# Altium footprint library Footprints.PcbLib: 30 footprints (part 1 of 2)
Each footprint in its own frame and in the unit in brackets; x right, y up, seen from the top. Pads: shape width x height; smd on the part's side, far side on the other; paste and mask are expansions set on the pad; w line width, h text height; cw(c..) or ccw(c..) is an arc to the next point about the centre after c.
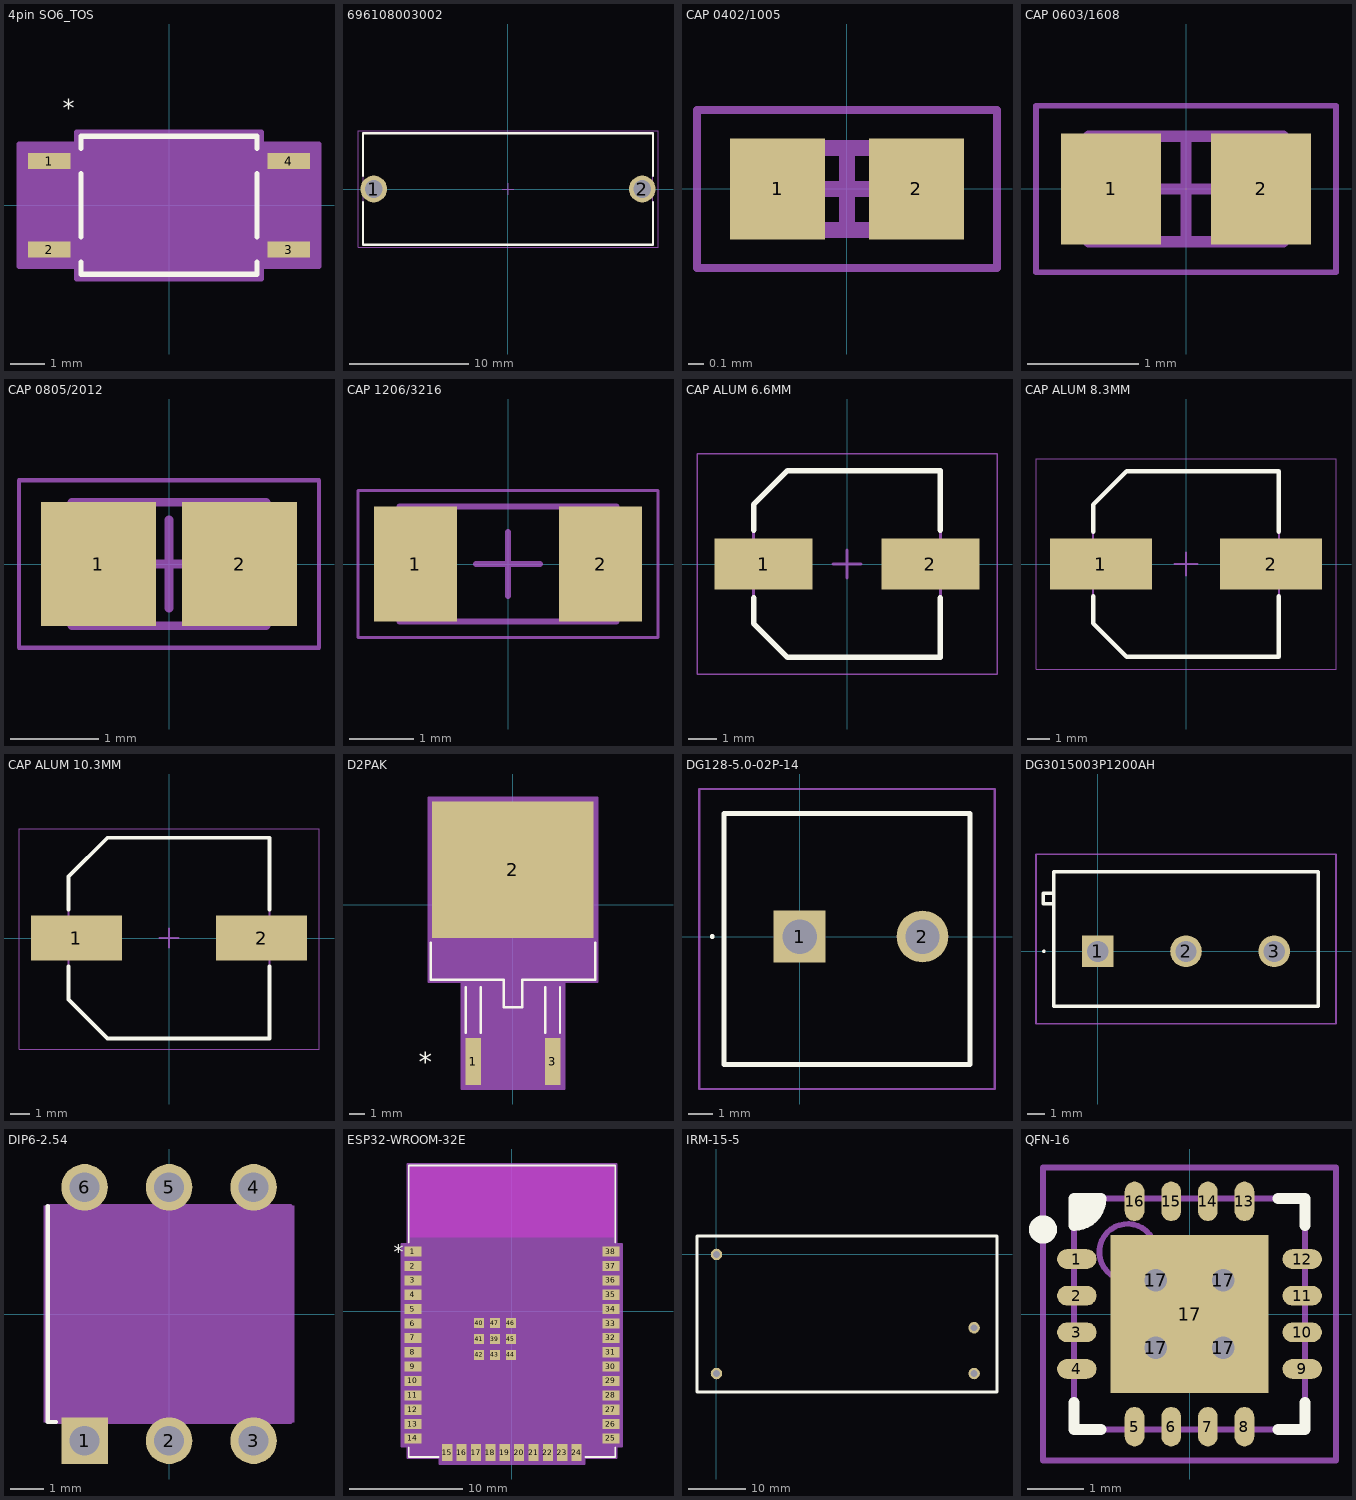
[diagram p0: the footprints below, top view; thin cyan lines are the x and y axes]

## 4pin SO6_TOS [mil]
pads (4):
  rect 48x18 smd paste+0 mask+0: 1(-135.5,50) 2(-135.5,-50) 3(135.5,-50) 4(135.5,50)
Top Overlay:
  lines w6: -99.5,-64.25 -99.5,-78 99.5,-78 99.5,-64.25 ; -99.5,-35.75 -99.5,35.75 ; -99.5,64.25 -99.5,78 99.5,78 99.5,64.25 ; 99.5,-35.75 99.5,35.75
  text "*" at -120,100 h20
Mechanical 13:
  lines w0: -12,73 ccw(c0,73) 12,73
  lines w1: -145.5,-58 -94.5,-58 -94.5,-42 -145.5,-42 -145.5,-58 ; -145.5,42 -94.5,42 -94.5,58 -145.5,58 -145.5,42 ; -94.5,-73 -94.5,73 94.5,73 94.5,-73 -94.5,-73 ; 94.5,-58 145.5,-58 145.5,-42 94.5,-42 94.5,-58 ; 94.5,42 145.5,42 145.5,58 94.5,58 94.5,42
Mechanical 15:
  region: -104.5,-69 -169.5,-69 -169.5,69 -104.5,69 -104.5,83 104.5,83 104.5,69 169.5,69 169.5,-69 104.5,-69 104.5,-83 -104.5,-83
  lines w6: -169.5,-69 -104.5,-69 -104.5,-83 104.5,-83 104.5,-69 169.5,-69 169.5,69 104.5,69 104.5,83 -104.5,83 -104.5,69 -169.5,69 -169.5,-69
3D body "4pinSO6_TOS.step": height 87.09, standoff 0, extent -145.51,-72.99 145.51,72.99

## 696108003002 [mm] "FUSEHOLDER BLOCKS - PCB - CLIP COVER - THT"
height 11.5
pads (2):
  round 2.25 hole 1.5: 1(-11.3,0) 2(11.3,0)
Top Overlay:
  lines w0.2: -12.2,-1.1 -12.2,-4.7 12.2,-4.7 12.2,-1.1 ; -12.2,1.1 -12.2,4.7 12.2,4.7 12.2,1.1
Top 3D Body:
  lines w0.1: -12.2,-4.7 12.2,-4.7 12.2,4.7 -12.2,4.7 -12.2,-4.7
Top Courtyard:
  lines w0.05: -0.5,0 0.5,0 ; 0,-0.5 0,0.5 ; -12.625,-4.9 12.625,-4.9 12.625,4.9 -12.625,4.9 -12.625,-4.9
Top Designator:
  text ".Designator" at -7.498,-0.5 h1.5
Top Component Outline:
  lines w0.1: -12.2,-4.7 -12.2,4.7 12.2,4.7 12.2,-4.7 -12.2,-4.7
3D body "696108003002 - PTF_78.stp": height 11.55, standoff -3.45, extent -12.2,-4.7 12.2,4.7

## CAP 0402/1005 [mm] "Chip Capacitor, 2-Leads, Body 1.02x0.51mm, IPC Medium Density"
height 0.52
pads (2):
  rect 0.6x0.64 smd: 1(-0.44,0) 2(0.44,0)
Mechanical 13:
  lines w0.1: -0.515,-0.26 -0.515,0.26 0.515,0.26 0.515,-0.26 -0.515,-0.26
Mechanical 15:
  lines w0.05: -0.95,-0.5 -0.95,0.5 0.95,0.5 0.95,-0.5 -0.95,-0.5
  lines w0.1: -0.26,0 0.26,0 ; 0,-0.26 0,0.26
3D body "0402 cap.STEP": height 0.52, standoff 0, extent -0.5,-0.262 0.5,0.262

## CAP 0603/1608 [mm] "Chip Capacitor, 2-Leads, Body 1.60x0.80mm, IPC Medium Density"
height 0.89
pads (2):
  rect 0.9x1 smd: 1(-0.675,0) 2(0.675,0)
Mechanical 13:
  lines w0.1: -0.875,-0.475 -0.875,0.475 0.875,0.475 0.875,-0.475 -0.875,-0.475
Mechanical 15:
  lines w0.05: -1.35,-0.75 -1.35,0.75 1.35,0.75 1.35,-0.75 -1.35,-0.75
  lines w0.1: -0.475,0 0.475,0 ; 0,-0.475 0,0.475
3D body "0603 cap.STEP": height 0.82, standoff 0, extent -0.8,-0.412 0.8,0.412

## CAP 0805/2012 [mm] "Chip Capacitor, 2-Leads, Body 2.00x1.20mm, IPC Medium Density"
height 1.15
pads (2):
  rect 1.3x1.4 smd: 1(-0.8,0) 2(0.8,0)
Mechanical 13:
  lines w0.1: -1.1,-0.7 -1.1,0.7 1.1,0.7 1.1,-0.7 -1.1,-0.7
Mechanical 15:
  lines w0.05: -1.7,-0.95 -1.7,0.95 1.7,0.95 1.7,-0.95 -1.7,-0.95
  lines w0.1: -0.5,0 0.5,0 ; 0,-0.5 0,0.5
3D body "0805 cap.STEP": height 1.26, standoff -0.02, extent -1,-0.637 1,0.637

## CAP 1206/3216 [mm] "Chip Capacitor, 2-Leads, Body 3.25x1.60mm, IPC Medium Density"
height 1.6
pads (2):
  rect 1.3x1.8 smd: 1(-1.45,0) 2(1.45,0)
Mechanical 13:
  lines w0.1: -1.7,-0.9 -1.7,0.9 1.7,0.9 1.7,-0.9 -1.7,-0.9
Mechanical 15:
  lines w0.05: -2.35,-1.15 -2.35,1.15 2.35,1.15 2.35,-1.15 -2.35,-1.15
  lines w0.1: -0.5,0 0.5,0 ; 0,-0.5 0,0.5
3D body "1206 cap.STEP": height 1.62, standoff 0, extent -1.6,-0.812 1.6,0.812

## CAP ALUM 6.6MM [mm] "Aluminum Electrolytic Capacitor, Body 6.60x6.60x7.70mm, IPC Low Density"
height 7.7
pads (2):
  rect 3.45x1.8 smd: 1(-2.95,0) 2(2.95,0)
Top Overlay:
  lines w0.2: -3.3,-1.2 -3.3,-2.1 -2.1,-3.3 3.3,-3.3 3.3,-1.2 ; -3.3,1.2 -3.3,2.1 -2.1,3.3 3.3,3.3 3.3,1.2
Mechanical 13:
  lines w0.1: -3.3,-2.1 -3.3,2.1 -2.1,3.3 3.3,3.3 3.3,-3.3 -2.1,-3.3 -3.3,-2.1
Mechanical 15:
  lines w0.05: -5.3,-3.9 5.3,-3.9 5.3,3.9 -5.3,3.9 -5.3,-3.9
  lines w0.1: -0.5,0 0.5,0 ; 0,-0.5 0,0.5
3D body "CAP ALUM 6_6mm.STEP": height 7.7, standoff 0, extent -3.5,-3.3 3.5,3.3

## CAP ALUM 8.3MM [mm] "Aluminum Electrolytic Capacitor, Body 8.30x8.30x10.50mm, IPC Low Density"
height 10.5
pads (2):
  rect 4.55x2.3 smd: 1(-3.8,0) 2(3.8,0)
Top Overlay:
  lines w0.2: -4.15,-1.45 -4.15,-2.65 -2.65,-4.15 4.15,-4.15 4.15,-1.45 ; -4.15,1.45 -4.15,2.65 -2.65,4.15 4.15,4.15 4.15,1.45
Mechanical 13:
  lines w0.1: -4.15,-2.65 -2.65,-4.15 4.15,-4.15 4.15,4.15 -2.65,4.15 -4.15,2.65 -4.15,-2.65
Mechanical 15:
  lines w0.05: -6.7,-4.7 -6.7,4.7 6.7,4.7 6.7,-4.7 -6.7,-4.7
  lines w0.1: -0.5,0 0.5,0 ; 0,-0.5 0,0.5
3D body "CAP ALUM 8_3mm.STEP": height 10.5, standoff 0, extent -4.95,-4.15 4.95,4.15

## CAP ALUM 10.3MM [mm] "Aluminum Electrolytic Capacitor, Body 10.30x10.30x10.50mm, IPC Low Density"
height 10.5
pads (2):
  rect 4.65x2.3 smd: 1(-4.75,0) 2(4.75,0)
Top Overlay:
  lines w0.2: -5.15,-1.45 -5.15,-3.15 -3.15,-5.15 5.15,-5.15 5.15,-1.45 ; -5.15,1.45 -5.15,3.15 -3.15,5.15 5.15,5.15 5.15,1.45
Mechanical 13:
  lines w0.1: -5.15,-3.15 -5.15,3.15 -3.15,5.15 5.15,5.15 5.15,-5.15 -3.15,-5.15 -5.15,-3.15
Mechanical 15:
  lines w0.05: -7.7,-5.7 7.7,-5.7 7.7,5.6 -7.7,5.6 -7.7,-5.7
  lines w0.1: -0.5,0 0.5,0 ; 0,-0.5 0,0.5
3D body "CAP ALUM 10_3mm.STEP": height 10.5, standoff 0, extent -5.8,-5.15 5.8,5.15

## D2PAK [mil]
pads (3):
  rect 39x118 smd paste+0 mask+0: 1(-100,-395) 3(100,-395)
  rect 407x343 smd paste+0 mask+0: 2(0,88.5)
Top Overlay:
  lines w6: -207.5,-95.47 -207.5,-189 -23.5,-189 -23.5,-258 23.5,-258 23.5,-189 207.5,-189 207.5,-95.47 ; -118.5,-322 -118.5,-208 ; -81.5,-322 -81.5,-208 ; 81.5,-322 81.5,-208 ; 118.5,-322 118.5,-208
  text "*" at -237.5,-420 h50
Mechanical 13:
  lines w1: -202.5,-184 202.5,-184 202.5,184 -202.5,184 -202.5,-184 ; -118.5,-440 -118.5,-184 -81.5,-184 -81.5,-440 -118.5,-440 ; -18.5,-253 -18.5,-184 18.5,-184 18.5,-253 -18.5,-253 ; 81.5,-440 81.5,-184 118.5,-184 118.5,-440 81.5,-440
  text "*" at -112.5,-199 h50
Mechanical 15:
  region: -212.5,-194 -212.5,194 -212.5,270 212.5,270 212.5,194 212.5,-194 129.5,-194 129.5,-464 -129.5,-464 -129.5,-194
  lines w6: -212.5,-194 -212.5,194 -212.5,270 212.5,270 212.5,194 212.5,-194 129.5,-194 129.5,-464 -129.5,-464 -129.5,-194 -212.5,-194
3D body "D2PAK_T2550_STM.step": height 181.1, standoff -2.01, extent -202.48,-440 202.48,239.02

## DG128-5.0-02P-14 [mm]
pads (2):
  rect 2.1x2.1 hole 1.4: 1(0,0)
  round 2.1 hole 1.4: 2(5,0)
Top Overlay:
  lines w0.1: -3.6,0 ccw(c-3.55,0) -3.5,0 ; -3.6,0 cw(c-3.55,0) -3.5,0 ; -3.6,0 ccw(c-3.55,0) -3.5,0
  lines w0.2: -3.07,-5.2 6.93,-5.2 6.93,5 -3.07,5 -3.07,-5.2
Mechanical 15:
  lines w0.1: -3.07,-5.2 -3.07,5 6.93,5 6.93,-5.2 -3.07,-5.2
Mechanical 20:
  lines w0.1: -4.07,-6.2 -4.07,6 7.93,6 7.93,-6.2 -4.07,-6.2
3D body "DG128-5.0-02P-14.stp": height 14.01, standoff -3.49, extent -2.54,-4.973 8.03,5.227

## DG3015003P1200AH [mm]
pads (3):
  rect 1.8x1.8 hole 1.2: 1(0,0)
  round 1.8 hole 1.2: 2(5,0) 3(10,0)
Top Overlay:
  lines w0.1: -3.1,0 ccw(c-3.05,0) -3,0 ccw(c-3.05,0) -3.1,0
  lines w0.2: -2.5,2.7 -3.1,2.7 -3.1,3.3 -2.5,3.3 ; -2.5,-3.1 12.5,-3.1 12.5,4.5 -2.5,4.5 -2.5,-3.1
Mechanical 15:
  lines w0.1: -2.5,-3.1 12.5,-3.1 12.5,4.5 -2.5,4.5 -2.5,-3.1
Mechanical 20:
  lines w0.1: -3.5,-4.1 13.5,-4.1 13.5,5.5 -3.5,5.5 -3.5,-4.1
3D body "DG128-5.0-03P-14-00A_H_.stp": height 14.01, standoff -3.49, extent -2.489,-4.973 13.081,5.227

## DIP6-2.54 [mm]
pads (6):
  rect 1.4x1.4 hole 0.9: 1(-2.54,-3.81)
  round 1.4 hole 0.9: 2(0,-3.81) 3(2.54,-3.81) 4(2.54,3.81) 5(0,3.81) 6(-2.54,3.81)
Top Overlay:
  lines w0.127: -3.65,3.25 -3.65,-3.25 -3.4,-3.25
Mechanical 13:
  lines w0.127: -3.65,-3.25 3.65,-3.25 ; -3.65,3.25 3.65,3.25
Mechanical 15:
  region: 3.76,-3.255 -3.766,-3.255 -3.766,3.25 3.76,3.25
3D body "4N35.STEP": height 3.81, standoff -3.94, extent -3.56,-4.405 3.56,4.405

## ESP32­WROOM­32E [mil]
pads (47):
  rect 59x35 smd paste+0 mask+0: 1(-344.5,207.1) 2(-344.5,157.1) 3(-344.5,107.1) 4(-344.5,57.1) 5(-344.5,7.1) 6(-344.5,-42.9) 7(-344.5,-92.9) 8(-344.5,-142.9) 9(-344.5,-192.9) 10(-344.5,-242.9) 11(-344.5,-292.9) 12(-344.5,-342.9) 13(-344.5,-392.9) 14(-344.5,-442.9) 25(344.5,-442.9) 26(344.5,-392.9) 27(344.5,-342.9) 28(344.5,-292.9) 29(344.5,-242.9) 30(344.5,-192.9) 31(344.5,-142.9) 32(344.5,-92.9) 33(344.5,-42.9) 34(344.5,7.1) 35(344.5,57.1) 36(344.5,107.1) 37(344.5,157.1) 38(344.5,207.1)
  rect 35x59 smd paste+0 mask+0: 15(-225,-492.15) 16(-175,-492.15) 17(-125,-492.15) 18(-75,-492.15) 19(-25,-492.15) 20(25,-492.15) 21(75,-492.15) 22(125,-492.15) 23(175,-492.15) 24(225,-492.15)
  rect 35x35 smd paste+0 mask+0: 39(-59.1,-96.9) 40(-114.2,-41.8) 41(-114.2,-96.9) 42(-114.2,-152) 43(-59.1,-152) 44(-4,-152) 45(-4,-96.9) 46(-4,-41.8) 47(-59.1,-41.8)
Top Overlay:
  lines w6: -359.5,-473.5 -359.5,-507 -255.6,-507 ; -359.5,237.7 -359.5,507 359.5,507 359.5,237.7 ; 255.6,-507 359.5,-507 359.5,-473.5
  text "*" at -411.5,182.1 h50
Keep-Out Layer:
  region: 354.5,258 354.5,502 -354.5,502 -354.5,258
Mechanical 13:
  lines w1: -354.5,-502 -354.5,502 354.5,502 354.5,-502 -354.5,-502
  text "*" at -302.5,182.1 h50
Mechanical 15:
  region: -364.5,-512 -252.5,-512 -252.5,-531.65 252.5,-531.65 252.5,-512 364.5,-512 364.5,-470.4 384,-470.4 384,234.6 364.5,234.6 364.5,512 -364.5,512 -364.5,234.6 -384,234.6 -384,-470.4 -364.5,-470.4
  lines w6: -384,-470.4 -364.5,-470.4 -364.5,-512 -252.5,-512 -252.5,-531.65 252.5,-531.65 252.5,-512 364.5,-512 364.5,-470.4 384,-470.4 384,234.6 364.5,234.6 364.5,512 -364.5,512 -364.5,234.6 -384,234.6 -384,-470.4
3D body "ESP32-WROOM-32E-N4.STEP": height 128.46, standoff 0.5, extent -354.33,-490.16 354.33,513.78

## IRM-15-5 [mm] "Power supply ac/dc 5V 15W"
pads (4):
  round 2 hole 1.2: AC/L(0,-20.8) AC/N(0,0) Vo+(45,-12.8) Vo-(45,-20.8)
Top Overlay:
  lines w0.5: -3.4,-24 -3.4,3.2 49,3.2 49,-24 -3.4,-24
3D body "IRM-15.step": height 16, standoff -9, extent -3.4,-24 49,3.2

## QFN-16 [mm] "QFN, 16-Leads, Body 4.1x4.1mm (max), Pitch 0.65mm, IPC Medium Density"
height 1
pads (21):
  oval 0.7x0.35 smd: 1(-2,0.975) 2(-2,0.325) 3(-2,-0.325) 4(-2,-0.975) 9(2,-0.975) 10(2,-0.325) 11(2,0.325) 12(2,0.975)
  oval 0.35x0.7 smd: 5(-0.975,-2) 6(-0.325,-2) 7(0.325,-2) 8(0.975,-2) 13(0.975,2) 14(0.325,2) 15(-0.325,2) 16(-0.975,2)
  round 0.8 hole 0.4 unplated: 17(-0.6,-0.6) 17(-0.6,0.6) 17(0.6,-0.6) 17(0.6,0.6)
  rect 2.8x2.8 smd: 17(0,0)
Top Overlay:
  circle w0.25: c-2.6,1.5 r0.125
  region: -2.05,2.05 -1.575,2.05 -1.575,1.925 -1.9,1.6 -2.05,1.6
  lines w0.2: -2.05,-1.575 -2.05,-2.05 -1.575,-2.05 ; 1.575,-2.05 2.05,-2.05 2.05,-1.575 ; 1.575,2.05 2.05,2.05 2.05,1.575 ; -2.05,1.575 ccw(c-2.05,2.05) -1.575,2.05 -2.05,2.05 -2.05,1.575
Mechanical 13:
  circle w0.1: c-1.1,1.1 r0.5
  lines w0.1: -2.05,-2.05 -2.05,2.05 2.05,2.05 2.05,-2.05 -2.05,-2.05
Mechanical 15:
  lines w0.1: -0.5,0 0.5,0 ; 0,-0.5 0,0.5 ; -2.6,-2.6 -2.6,2.6 2.6,2.6 2.6,-2.6 -2.6,-2.6
3D body: height 1, standoff 0.08, extent -2.05,-2.05 2.05,2.05